# EAGLE library part FDS8984 (library nonolith)
N-Channel PowerTrench MOSFET 30V, 7A, 23mo
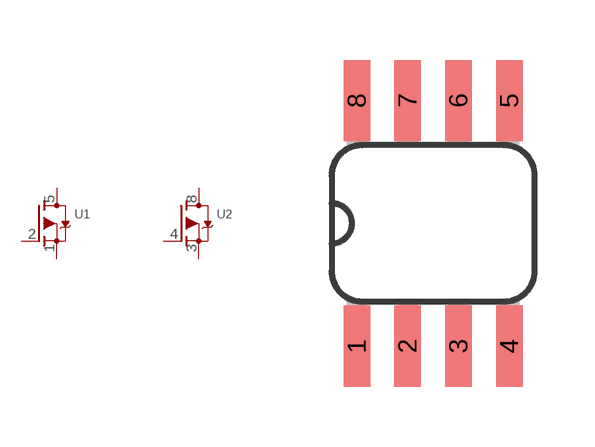
[diagram p21: symbol with the pads of SO-08; footprint SO-08]

Designator prefix -; gates 1=MOSFET-P 2=MOSFET-P

## FDS8984  [SO-08]
1  1:S
2  1:G
3  2:S
4  2:G
5  1:D
8  2:D

## Footprint SO-08 (pad centres in mm)
smd 0.66 x 2.032: 1 -1.905,-3.073; 2 -0.635,-3.073; 3 0.635,-3.073; 4 1.905,-3.073; 5 1.905,3.073; 6 0.635,3.073; 7 -0.635,3.073; 8 -1.905,3.073